# EAGLE library part PCA9306_DCT_8 (library PCA9306)
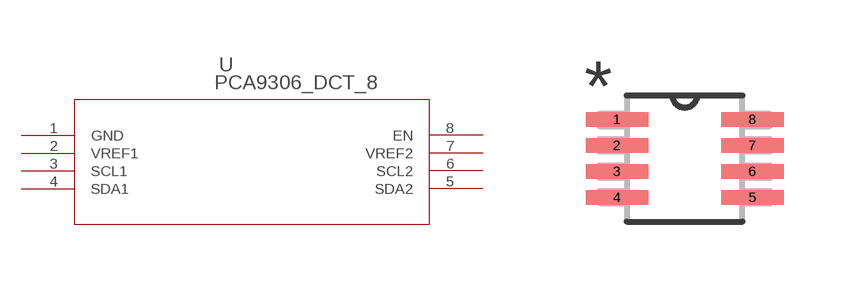
[diagram p0: symbol with the pads of DCT8; footprint DCT8]

Designator prefix U

## PCA9306_DCT_8 (DATASHEETURL: httpwww.ti.comlitgpnPCA9306; FAMILY_NAME: I2C SPECIAL FUNCTION; GENERIC_PART_NUMBER: PCA9306; INDUSTRY_STD_PKG_TYPE: SM8; MANUFACTURER: Texas Instruments; MANUFACTURER_PART_NUMBER: pca9306_dct_8; PACKAGE_DESIGNATOR: DCT; PIN_COUNT: 8; VENDOR: Texas Instruments)  [DCT8]
1  GND  pwr
2  VREF1  pwr
3  SCL1  pas
4  SDA1  pas
5  SDA2  pas
6  SCL2  pas
7  VREF2  pwr
8  EN  pas

## Footprint DCT8 (pad centres in mm)
smd 1.562 x 0.356: 1 -1.695,0.975; 2 -1.695,0.325; 3 -1.695,-0.325; 4 -1.695,-0.975; 5 1.695,-0.975; 6 1.695,-0.325; 7 1.695,0.325; 8 1.695,0.975